# Altium footprint library SPT3G_LCBoard.PcbLib: 31 footprints (part 2 of 2)
Each footprint in its own frame and in the unit in brackets; x right, y up, seen from the top. Pads: shape width x height; smd on the part's side, far side on the other; paste and mask are expansions set on the pad; w line width, h text height; cw(c..) or ccw(c..) is an arc to the next point about the centre after c.
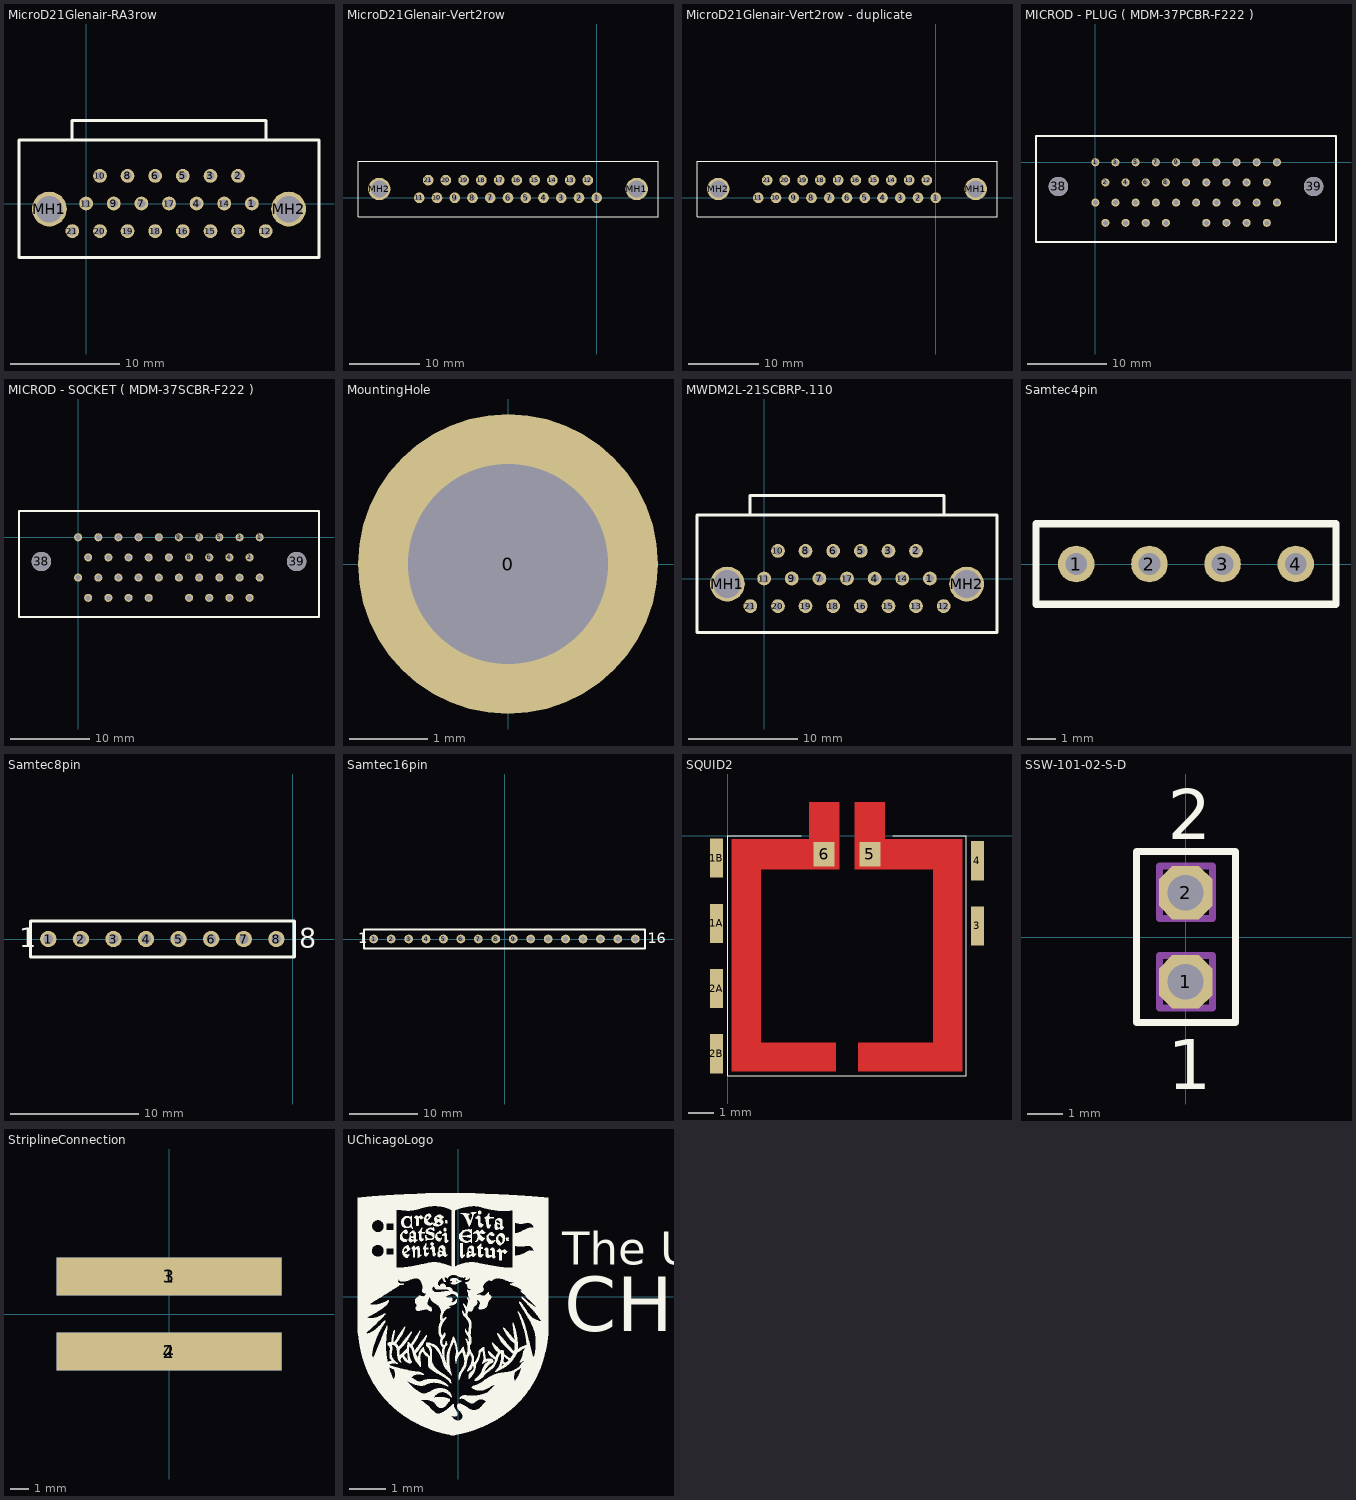
[diagram p1: the footprints below, top view; thin cyan lines are the x and y axes]

## MicroD21Glenair-RA3row [mil] "MWDM2L-21SCBRP-.110"
pads (23):
  round 50 hole 30: 1(600,0) 2(550,100) 3(450,100) 4(400,0) 5(350,100) 6(250,100) 7(200,0) 8(150,100) 9(100,0) 10(50,100) 11(0,0) 12(650,-100) 13(550,-100) 14(500,0) 15(450,-100) 16(350,-100) 17(300,0) 18(250,-100) 19(150,-100) 20(50,-100) 21(-50,-100)
  round 125.98 hole 96.06: MH1(-133,-20) MH2(733,-20)
Top Overlay:
  lines w10: -51,231 -51,300 651,300 651,231 ; -243,-195 -243,230 843,230 843,-195 -243,-195

## MicroD21Glenair-Vert2row [mil]
pads (23):
  round 60 hole 30: 1(0,0) 2(-100,0) 3(-200,0) 4(-300,0) 5(-400,0) 6(-500,0) 7(-600,0) 8(-700,0) 9(-800,0) 10(-900,0) 11(-1000,0) 12(-50,100) 13(-150,100) 14(-250,100) 15(-350,100) 16(-450,100) 17(-550,100) 18(-650,100) 19(-750,100) 20(-850,100) 21(-950,100)
  round 125.98 hole 96.06: MH1(225,50) MH2(-1225,50)
Top Overlay:
  lines w3.94: -1345,-105 345,-105 345,205 -1345,205 -1345,-105

## MicroD21Glenair-Vert2row - duplicate [mil]
pads (23):
  round 60 hole 30: 1(0,0) 2(-100,0) 3(-200,0) 4(-300,0) 5(-400,0) 6(-500,0) 7(-600,0) 8(-700,0) 9(-800,0) 10(-900,0) 11(-1000,0) 12(-50,100) 13(-150,100) 14(-250,100) 15(-350,100) 16(-450,100) 17(-550,100) 18(-650,100) 19(-750,100) 20(-850,100) 21(-950,100)
  round 125.98 hole 96.06: MH1(225,50) MH2(-1225,50)
Top Overlay:
  lines w3.94: -1345,-105 -1345,205 345,205 345,-105 -1345,-105

## MICROD - PLUG ( MDM-37PCBR-F222 ) [mil]
pads (39):
  round 40 / inner round 0 / far side round 40 hole 25 mask+5: 1(0,0) 2(50,-100) 3(100,-0.37) 4(150,-100) 5(200,0) 6(250,-100) 7(300,0) 8(350,-100) 9(400,0) 10(450,-100) 11(500,0) 12(550,-100) 13(600,0) 14(650,-100) 15(700,0) 16(750,-100) 17(799.78,0) 18(850,-100) 19(900,0) 20(0,-200) 21(50,-300) 22(100,-200) 23(150,-300) 24(200,-200) 25(250,-300) 26(300,-200) 27(350,-300) 28(400,-200) 29(500,-200) 30(550,-300) 31(600,-200) 32(650,-300) 33(700,-200) 34(750,-300) 35(800,-200) 36(850,-300) 37(900,-200)
  round 96 / inner round 0 / far side round 96 hole 96: 38(-183,-120) 39(1082,-120)
Top Overlay:
  lines w10: -294,-395 1193,-395 1193,130 -294,130 -294,-395

## MICROD - SOCKET ( MDM-37SCBR-F222 ) [mil]
pads (39):
  round 40 / inner round 0 / far side round 40 hole 25 mask+5: 1(899,0) 2(849,-100) 3(799,-0.37) 4(749,-100) 5(699,0) 6(649,-100) 7(599,0) 8(549,-100) 9(499,0) 10(449,-100) 11(399,0) 12(349,-100) 13(299,0) 14(249,-100) 15(199,0) 16(149,-100) 17(99.22,0) 18(49,-100) 19(-1,0) 20(899,-200) 21(849,-300) 22(799,-200) 23(749,-300) 24(699,-200) 25(649,-300) 26(599,-200) 27(549,-300) 28(499,-200) 29(399,-200) 30(349,-300) 31(299,-200) 32(249,-300) 33(199,-200) 34(149,-300) 35(99,-200) 36(49,-300) 37(-1,-200)
  round 96 / inner round 0 / far side round 96 hole 96: 38(-183,-120) 39(1082,-120)
Top Overlay:
  lines w10: -294,-395 1193,-395 1193,130 -294,130 -294,-395

## MountingHole [mil] "Mounting Hole"
pads (1):
  round 150 hole 100: 0(0,0)

## MWDM2L-21SCBRP-.110 [mil] "MWDM2L-21SCBRP-.110"
pads (23):
  round 50 hole 30: 1(600,0) 2(550,100) 3(450,100) 4(400,0) 5(350,100) 6(250,100) 7(200,0) 8(150,100) 9(100,0) 10(50,100) 11(0,0) 12(650,-100) 13(550,-100) 14(500,0) 15(450,-100) 16(350,-100) 17(300,0) 18(250,-100) 19(150,-100) 20(50,-100) 21(-50,-100)
  round 125.98 hole 100: MH1(-133,-20) MH2(733,-20)
Top Overlay:
  lines w10: -51,231 -51,300 651,300 651,231 ; -243,-195 843,-195 843,230 -243,230 -243,-195
3D body "gmr7590-21s-1bpn.stp": height 309.92, standoff -123.62, extent -242.35,-175.76 842.77,422.27

## PCBComponent_1 [mil]

## Samtec4pin [mil]
pads (4):
  round 50 hole 30: 1(-750,0) 2(-650,0) 3(-550,0) 4(-450,0)
Top Overlay:
  lines w10: -805,-55 -805,55 -395,55 -395,-55 -805,-55
Bottom Overlay:
  lines w10: -805,-55 -805,55 -395,55 -395,-55 -805,-55
3D body "SS-104-TT-2.stp": height 175, standoff -125, extent -800,-50 -400,50

## Samtec8pin [mil]
pads (8):
  round 50 hole 30: 1(-750,0) 2(-650,0) 3(-550,0) 4(-450,0) 5(-350,0) 6(-250,0) 7(-150,0) 8(-50,0)
Top Overlay:
  lines w10: -805,-55 5,-55 5,55 -805,55 -805,-55
  text "1" at -840,-25 h60
  text "8" at 21,-27 h60
3D body "SS-108-TT-2.stp": height 175, standoff -125, extent -800,-50 0,50

## Samtec16pin [mil]
pads (16):
  round 50 hole 30: 1(-750,0) 2(-650,0) 3(-550,0) 4(-450,0) 5(-350,0) 6(-250,0) 7(-150,0) 8(-50,0) 9(50,0) 10(150,0) 11(250,0) 12(350,0) 13(450,0) 14(550,0) 15(650,0) 16(750,0)
Top Overlay:
  lines w10: -805,-55 -805,55 805,55 805,-55 -805,-55
  text "16" at 820,-25 h60
  text "1" at -840,-25 h60
3D body "SS-116-TT-2.stp": height 175, standoff -125, extent -800,-50 800,50

## SQUID2 [mil]
pads (8):
  rect 20x60 smd paste-100: 1A(-17,-133.99) 1B(-17,-33.99) 2A(-17,-233.99) 2B(-17,-333.99) 3(383,-138) 4(383,-38)
  rect 32x38 smd paste-20 mask-20: 5(218,-28) 6(148,-28)
Top Layer:
  region: 241,52 196,52 195,51 195,-51 315,-51 315,-317 200.41,-317 200,-318 200,-361 360,-361 360,-5 241,-5
  region: 125,52 170,52 171,51 171,-51 51,-51 51,-317 165.59,-317 166,-318 166,-361 6,-361 6,-5 125,-5
Top Overlay:
  lines w1: 113,0 3,0 0,0 0,-3 0,-368 366,-368 366,0 253,0

## SSW-101-02-S-D [mil] "SSW-101-02-S-D"
pads (2):
  oct 60x60 hole 40: 1(0,-50) 2(0,50)
Top Overlay:
  lines w8: -55.08,-95.47 56,-95.47 56,96 -55.08,96 -55.08,-95.47
  text "1" at -20,-170 h56.1
  text "2" at -20,110 h56.1
Mechanical 16:
  lines w8: -29.33,-79.33 30,-79.33 30,-20.28 -29.33,-20.28 -29.33,-79.33 ; -29.33,21 30,21 30,80 -29.33,80 -29.33,21

## StriplineConnection [mm] "Attachment for stripline"
pads (4):
  rect 12x2 smd: 1(0,2) 2(0,-2)
  rect 12x2 smd far side: 3(0,2) 4(0,-2)

## UChicagoLogo [mil]
Top Overlay:
  drawing of 8063 lines, arcs and shapes, not listed
  text "CHICAGO" at 113,-55.6 h100
  text "The University of" at 111,22.8 h60